# EAGLE library part SR4G008 (library SR4G008)
Antennas 1559-1609MHz Avg. Eff >75% Linear Source: Datasheet <https://componentsearchengine.com/Datasheets/1/SR4G008.pdf>
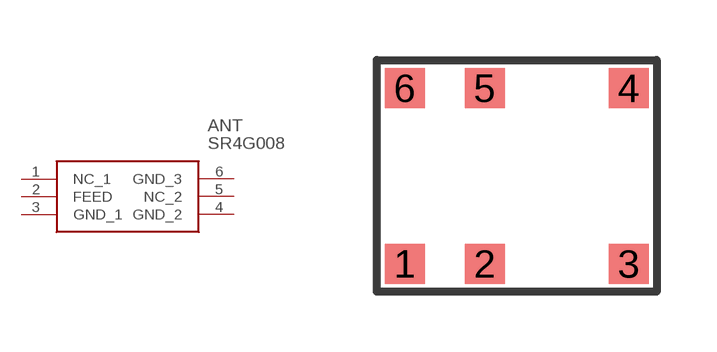
[diagram p0: symbol with the pads of SR4G008; footprint SR4G008]

Designator prefix ANT

## SR4G008 (Arrow_Part_Number: SR4G008; Arrow_Price-Stock: https://www.arrow.com/en/products/sr4g008/antenova?region=nac; Description: Antennas 1559-1609MHz Avg. Eff >75% Linear; Height: mm; Manufacturer_Name: Antenova; Manufacturer_Part_Number: SR4G008; Mouser_Part_Number: 237-SR4G008; Mouser_Price-Stock: https://www.mouser.co.uk/ProductDetail/Antenova/SR4G008?qs=vyIerDHf%2Fmn%2FnBMYNSbzrA%3D%3D)  [SR4G008]
1  NC_1
2  FEED
3  GND_1
4  GND_2
5  NC_2
6  GND_3

## Footprint SR4G008 (pad centres in mm)
SR4G008
smd 1 x 1: 1 -2.8,-2.2; 2 -0.8,-2.2; 3 2.8,-2.2; 4 2.8,2.2; 5 -0.8,2.2; 6 -2.8,2.2